# Altium footprint library Inductors_rus.PCBLIB: 16 footprints
Each footprint in its own frame and in the unit in brackets; x right, y up, seen from the top. Pads: shape width x height; smd on the part's side, far side on the other; paste and mask are expansions set on the pad; w line width, h text height; cw(c..) or ccw(c..) is an arc to the next point about the centre after c.
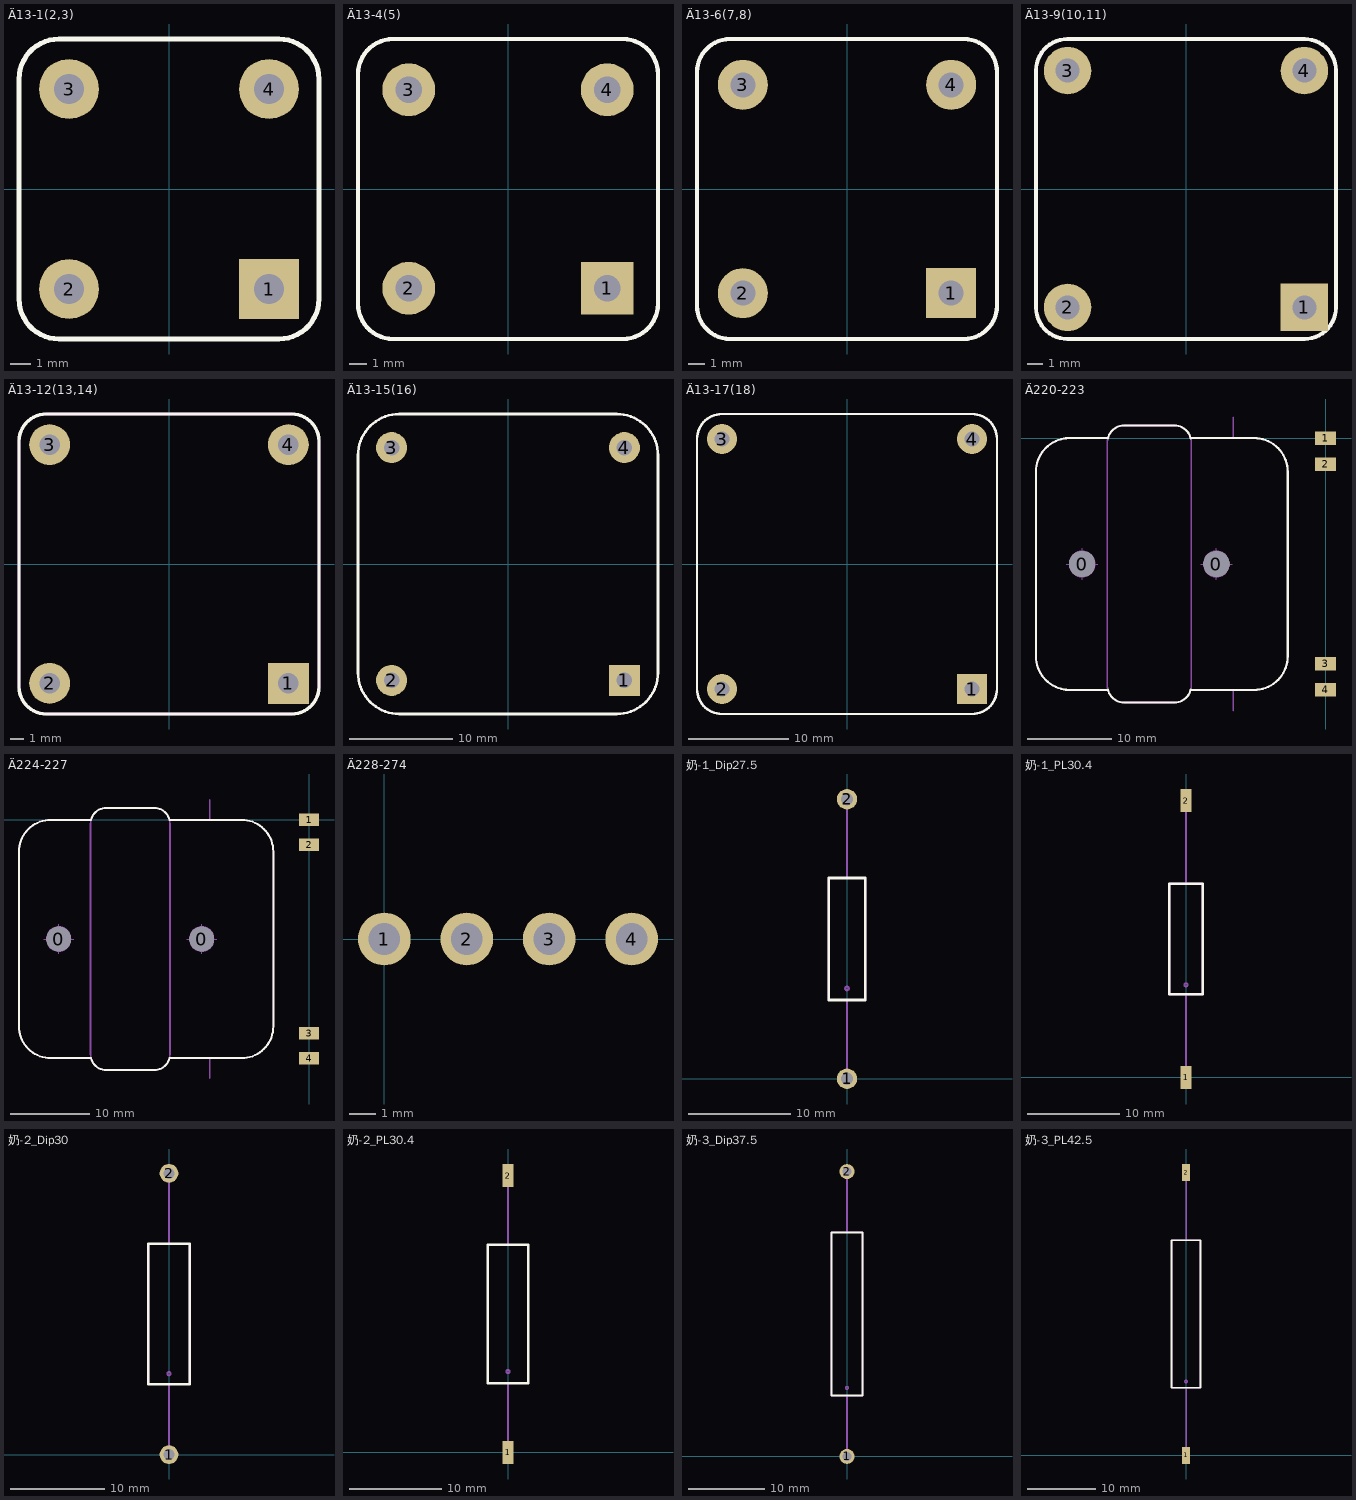
[diagram p0: the footprints below, top view; thin cyan lines are the x and y axes]

## Ä13-1(2,3) [mm]
pads (4):
  rect 3x3 hole 1.5: 1(5,-5)
  round 3 hole 1.5: 2(-5,-5) 3(-5,5) 4(5,5)
Top Overlay:
  lines w0.25: -7.5,-5.5 ccw(c-5.5,-5.5) -5.5,-7.5 5.5,-7.5 ccw(c5.5,-5.5) 7.5,-5.5 7.5,5.5 ccw(c5.5,5.5) 5.5,7.5 -5.5,7.5 ccw(c-5.5,5.5) -7.5,5.5 -7.5,-5.5
Mechanical 1:
  lines w0.2: -7.5,-5.5 ccw(c-5.5,-5.5) -5.5,-7.5 5.5,-7.5 ccw(c5.5,-5.5) 7.5,-5.5 7.5,5.5 ccw(c5.5,5.5) 5.5,7.5 -5.5,7.5 ccw(c-5.5,5.5) -7.5,5.5 -7.5,-5.5
  text ".Designator" at -2.716,1.019 h1.5

## Ä13-4(5) [mm]
pads (4):
  rect 3x3 hole 1.5: 1(5.625,-5.625)
  round 3 hole 1.5: 2(-5.625,-5.625) 3(-5.625,5.625) 4(5.625,5.625)
Top Overlay:
  lines w0.25: -8.5,-6.5 ccw(c-6.5,-6.5) -6.5,-8.5 6.5,-8.5 ccw(c6.5,-6.5) 8.5,-6.5 8.5,6.5 ccw(c6.5,6.5) 6.5,8.5 -6.5,8.5 ccw(c-6.5,6.5) -8.5,6.5 -8.5,-6.5
Mechanical 1:
  lines w0.2: -8.5,-6.5 ccw(c-6.5,-6.5) -6.5,-8.5 6.5,-8.5 ccw(c6.5,-6.5) 8.5,-6.5 8.5,6.5 ccw(c6.5,6.5) 6.5,8.5 -6.5,8.5 ccw(c-6.5,6.5) -8.5,6.5 -8.5,-6.5
  text ".Designator" at -2.216,0.219 h1.5

## Ä13-6(7,8) [mm]
pads (4):
  rect 3x3 hole 1.5: 1(6.25,-6.25)
  round 3 hole 1.5: 2(-6.25,-6.25) 3(-6.25,6.25) 4(6.25,6.25)
Top Overlay:
  lines w0.25: -9,-7 ccw(c-7,-7) -7,-9 7,-9 ccw(c7,-7) 9,-7 9,7 ccw(c7,7) 7,9 -7,9 ccw(c-7,7) -9,7 -9,-7
Mechanical 1:
  lines w0.2: -9,-7 ccw(c-7,-7) -7,-9 7,-9 ccw(c7,-7) 9,-7 9,7 ccw(c7,7) 7,9 -7,9 ccw(c-7,7) -9,7 -9,-7
  text ".Designator" at -2.366,0.569 h1.5

## Ä13-9(10,11) [mm]
pads (4):
  rect 3x3 hole 1.5: 1(7.5,-7.5)
  round 3 hole 1.5: 2(-7.5,-7.5) 3(-7.5,7.5) 4(7.5,7.5)
Top Overlay:
  lines w0.25: -9.5,-7.5 ccw(c-7.5,-7.5) -7.5,-9.5 7.5,-9.5 ccw(c7.5,-7.5) 9.5,-7.5 9.5,7.5 ccw(c7.5,7.5) 7.5,9.5 -7.5,9.5 ccw(c-7.5,7.5) -9.5,7.5 -9.5,-7.5
Mechanical 1:
  lines w0.2: -9.5,-7.5 ccw(c-7.5,-7.5) -7.5,-9.5 7.5,-9.5 ccw(c7.5,-7.5) 9.5,-7.5 9.5,7.5 ccw(c7.5,7.5) 7.5,9.5 -7.5,9.5 ccw(c-7.5,7.5) -9.5,7.5 -9.5,-7.5
  text ".Designator" at -2.566,0.469 h1.5

## Ä13-12(13,14) [mm]
pads (4):
  rect 3x3 hole 1.5: 1(8.75,-8.75)
  round 3 hole 1.5: 2(-8.75,-8.75) 3(-8.75,8.75) 4(8.75,8.75)
Top Overlay:
  lines w0.25: -11,-9 ccw(c-9,-9) -9,-11 9,-11 ccw(c9,-9) 11,-9 11,9 ccw(c9,9) 9,11 -9,11 ccw(c-9,9) -11,9 -11,-9
Mechanical 1:
  lines w0.2: -11,-9 ccw(c-9,-9) -9,-11 9,-11 ccw(c9,-9) 11,-9 11,9 ccw(c9,9) 9,11 -9,11 ccw(c-9,9) -11,9 -11,-9
  text ".Designator" at -3.066,0.569 h1.5

## Ä13-15(16) [mm]
pads (4):
  rect 3x3 hole 1.5: 1(11.25,-11.25)
  round 3 hole 1.5: 2(-11.25,-11.25) 3(-11.25,11.25) 4(11.25,11.25)
Top Overlay:
  lines w0.25: -14.5,-10.5 ccw(c-10.5,-10.5) -10.5,-14.5 10.5,-14.5 ccw(c10.5,-10.5) 14.5,-10.5 14.5,10.5 ccw(c10.5,10.5) 10.5,14.5 -10.5,14.5 ccw(c-10.5,10.5) -14.5,10.5 -14.5,-10.5
Mechanical 1:
  lines w0.2: -14.5,-10.5 ccw(c-10.5,-10.5) -10.5,-14.5 10.5,-14.5 ccw(c10.5,-10.5) 14.5,-10.5 14.5,10.5 ccw(c10.5,10.5) 10.5,14.5 -10.5,14.5 ccw(c-10.5,10.5) -14.5,10.5 -14.5,-10.5
  text ".Designator" at -3.116,0.769 h1.5

## Ä13-17(18) [mm]
pads (4):
  rect 3x3 hole 1.5: 1(12.5,-12.5)
  round 3 hole 1.5: 2(-12.5,-12.5) 3(-12.5,12.5) 4(12.5,12.5)
Top Overlay:
  lines w0.25: -15,-12.5 ccw(c-12.5,-12.5) -12.5,-15 12.5,-15 ccw(c12.5,-12.5) 15,-12.5 15,12.5 ccw(c12.5,12.5) 12.5,15 -12.5,15 ccw(c-12.5,12.5) -15,12.5 -15,-12.5
Mechanical 1:
  lines w0.2: -15,-12.5 ccw(c-12.5,-12.5) -12.5,-15 12.5,-15 ccw(c12.5,-12.5) 15,-12.5 15,12.5 ccw(c12.5,12.5) 12.5,15 -12.5,15 ccw(c-12.5,12.5) -15,12.5 -15,-12.5
  text ".Designator" at -2.916,1.719 h1.5

## Ä220-223 [mm]
pads (6):
  round 3.1 hole 3.1 unplated: 0(-29,-15) 0(-13,-15)
  rect 2.5x1.6 smd: 1(0,0) 2(0,-3.125) 3(0,-26.875) 4(0,-30)
Top Overlay:
  lines w0.25: -31,-30 -26,-30 ; -31,0 -26,0 ; -30.5,-30 cw(c-30.5,-26) -34.5,-26 -34.5,-4 cw(c-30.5,-4) -30.5,0 ; -25.941,-29.984 ccw(c-24,-29.5) -24,-31.5 -18,-31.5 ccw(c-18,-29.5) -16.059,-29.984 ; -25.941,-0.016 cw(c-24,-0.5) -24,1.5 -18,1.5 cw(c-18,-0.5) -16.059,-0.016 ; -16,-30 -8.5,-30 ccw(c-8.5,-26) -4.5,-26 -4.5,-4 ccw(c-8.5,-4) -8.5,0 -16,0
Mechanical 1:
  circle w0.1: c-13,-15 r1.551
  circle w0.1: c-29,-15 r1.55
  lines w0.1: -30.875,-15 -27.125,-15 ; -29,-16.875 -29,-13.125 ; -14.875,-15 -11.125,-15 ; -13,-16.875 -13,-13.125
  lines w0.2: -31,-30 -26,-30 ; -31,0 -26,0 ; -30.5,-30 cw(c-30.5,-26) -34.5,-26 -34.5,-4 cw(c-30.5,-4) -30.5,0 ; -16,-30 -8.5,-30 ccw(c-8.5,-26) -4.5,-26 -4.5,-4 ccw(c-8.5,-4) -8.5,0 -16,0 ; -11,-32.5 -11,-30 ; -11,0 -11,2.5 ; -26,-29.5 ccw(c-24,-29.5) -24,-31.5 -18,-31.5 ccw(c-18,-29.5) -16,-29.5 -16,-0.5 ccw(c-18,-0.5) -18,1.5 -24,1.5 ccw(c-24,-0.5) -26,-0.5 -26,-29.5
  text ".Designator" at -20.769,-18.066 h1.5

## Ä224-227 [mm]
pads (6):
  round 3.1 hole 3.1 unplated: 0(-31.5,-15) 0(-13.5,-15)
  rect 2.5x1.6 smd: 1(0,0) 2(0,-3.125) 3(0,-26.875) 4(0,-30)
Top Overlay:
  lines w0.25: -27.5,-30 -32.5,-30 cw(c-32.5,-26) -36.5,-26 -36.5,-4 cw(c-32.5,-4) -32.5,0 -27.5,0 ; -27.441,-29.984 ccw(c-25.5,-29.5) -25.5,-31.5 -19.5,-31.5 ccw(c-19.5,-29.5) -17.559,-29.984 ; -27.441,-0.016 cw(c-25.5,-0.5) -25.5,1.5 -19.5,1.5 cw(c-19.5,-0.5) -17.559,-0.016 ; -17.5,-30 -8.5,-30 ccw(c-8.5,-26) -4.5,-26 -4.5,-4 ccw(c-8.5,-4) -8.5,0 -17.5,0
Mechanical 1:
  circle w0.1: c-31.5,-15 r1.55
  circle w0.1: c-13.5,-15 r1.551
  lines w0.1: -33.375,-15 -29.625,-15 ; -31.5,-16.875 -31.5,-13.125 ; -15.375,-15 -11.625,-15 ; -13.5,-16.875 -13.5,-13.125
  lines w0.2: -27.5,-30 -32.5,-30 cw(c-32.5,-26) -36.5,-26 -36.5,-4 cw(c-32.5,-4) -32.5,0 -27.5,0 ; -17.5,-30 -8.5,-30 ccw(c-8.5,-26) -4.5,-26 -4.5,-4 ccw(c-8.5,-4) -8.5,0 -17.5,0 ; -12.5,-32.5 -12.5,-30 ; -12.5,0 -12.5,2.5 ; -27.5,-29.5 ccw(c-25.5,-29.5) -25.5,-31.5 -19.5,-31.5 ccw(c-19.5,-29.5) -17.5,-29.5 -17.5,-0.5 ccw(c-19.5,-0.5) -19.5,1.5 -25.5,1.5 ccw(c-25.5,-0.5) -27.5,-0.5 -27.5,-29.5
  text ".Designator" at -22.269,-17.966 h1.5

## Ä228-274 [mm]
pads (4):
  round 2 hole 1.2: 1(0,0) 2(3.125,0) 3(6.25,0) 4(9.375,0)
Mechanical 1:
  text ".Designator" at 1.684,1.919 h1.5

## 奶-1_Dip27.5 [mm]
height 3.6
pads (2):
  round 2 hole 1.2: 1(0,0) 2(0,27.5)
Top Overlay:
  lines w0.25: -1.8,7.75 1.8,7.75 1.8,19.75 -1.8,19.75 -1.8,7.75
Mechanical 1:
  circle w0.2: c-0.005,8.89 r0.18
  lines w0.2: 0,0 0,7.75 ; 0,19.75 0,27.5 ; -1.8,7.75 1.8,7.75 1.8,19.75 -1.8,19.75 -1.8,7.75
  text ".Designator" at 0.377,10.749 h1.5
3D body: height 3.8, standoff -3, extent -1.9,-0.299 1.885,27.8

## 奶-1_PL30.4 [mm]
height 3.6
pads (2):
  rect 1.2x2.5 smd: 1(0,0) 2(0,30)
Top Overlay:
  lines w0.25: -1.8,9 1.8,9 1.8,21 -1.8,21 -1.8,9
Mechanical 1:
  circle w0.2: c-0.005,10.033 r0.18
  lines w0.2: 0,-0.18 0,8.995 ; 0,21.01 0,30.2 ; -1.8,9 1.8,9 1.8,21 -1.8,21 -1.8,9
  text ".Designator" at 0.377,11.892 h1.5
3D body: height 3.8, standoff 0, extent -1.9,-0.2 1.885,30.2

## 奶-2_Dip30 [mm]
height 4.4
pads (2):
  round 2 hole 1.2: 1(0,0) 2(0,30)
Top Overlay:
  lines w0.25: -2.2,7.5 -2.2,22.5 2.2,22.5 2.2,7.5 -2.2,7.5
Mechanical 1:
  circle w0.2: c-0.005,8.636 r0.18
  lines w0.2: 0,0 0,7.5 ; 0,22.5 0,30 ; -2.2,7.5 -2.2,22.5 2.2,22.5 2.2,7.5 -2.2,7.5
  text ".Designator" at 0.381,12.319 h1.5
3D body: height 4.4, standoff -3, extent -2.2,-0.399 2.183,30.399

## 奶-2_PL30.4 [mm]
height 4.4
pads (2):
  rect 1.2x2.5 smd: 1(0,0) 2(0,30)
Top Overlay:
  lines w0.25: -2.2,7.5 2.2,7.5 2.2,22.5 -2.2,22.5 -2.2,7.5
Mechanical 1:
  circle w0.2: c-0.005,8.763 r0.18
  lines w0.2: 0,-0.18 0,7.5 ; 0,22.5 0,30.2 ; -2.2,7.5 2.2,7.5 2.2,22.5 -2.2,22.5 -2.2,7.5
  text ".Designator" at 0.254,11.811 h1.5
3D body: height 4.4, standoff 0, extent -2.2,-0.2 2.183,30.2

## 奶-3_Dip37.5 [mm]
height 5.1
pads (2):
  round 2 hole 1.2: 1(0,0) 2(0,37.5)
Top Overlay:
  lines w0.25: -2.05,8 -2.05,29.5 2.05,29.5 2.05,8 -2.05,8
Mechanical 1:
  circle w0.2: c-0.005,9.017 r0.18
  lines w0.2: 0,0 0,8 ; 0,29.5 0,37.5 ; -2.05,8 -2.05,29.5 2.05,29.5 2.05,8 -2.05,8
  text ".Designator" at 0.381,16.256 h1.5
3D body: height 5.09, standoff -3, extent -2.55,-0.399 2.53,37.899

## 奶-3_PL42.5 [mm]
height 5.1
pads (2):
  rect 1.2x2.5 smd: 1(0,0) 2(0,41.25)
Top Overlay:
  lines w0.25: -2.1,9.875 2.1,9.875 2.1,31.375 -2.1,31.375 -2.1,9.875
Mechanical 1:
  circle w0.2: c-0.005,10.795 r0.18
  lines w0.2: 0,-0.625 0,9.875 ; 0,31.375 0,41.875 ; -2.1,9.875 2.1,9.875 2.1,31.375 -2.1,31.375 -2.1,9.875
  text ".Designator" at 0.381,18.034 h1.5
3D body: height 5.09, standoff 0, extent -2.55,-0.375 2.53,41.625